# EAGLE library part MIC4102 (library di_ic)
Micrel MIC4102 - 100V Half Bridge MOSFET Driver with Anti-Shoot Through Protection. http://www.micrel.com/_PDF/mic4102.pdf.pdf
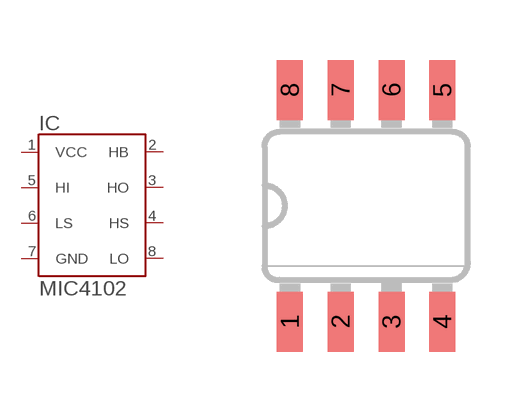
[diagram p49: symbol with the pads of SO08N; footprint SO08N]

Designator prefix IC

## MIC4102  [SO08N]
1  VCC  pwr
2  HB
3  HO  out
4  HS
5  HI  in
6  LS  in
7  GND  pwr
8  LO  out

## Footprint SO08N (pad centres in mm)
smd 0.65 x 1.5: 1 -1.905,-2.9; 2 -0.635,-2.9; 3 0.635,-2.9; 4 1.905,-2.9; 5 1.905,2.9; 6 0.635,2.9; 7 -0.635,2.9; 8 -1.905,2.9